# Altium footprint library 107-LQFP.PcbLib: 2 footprints
Each footprint in its own frame and in the unit in brackets; x right, y up, seen from the top. Pads: shape width x height; smd on the part's side, far side on the other; paste and mask are expansions set on the pad; w line width, h text height; cw(c..) or ccw(c..) is an arc to the next point about the centre after c.
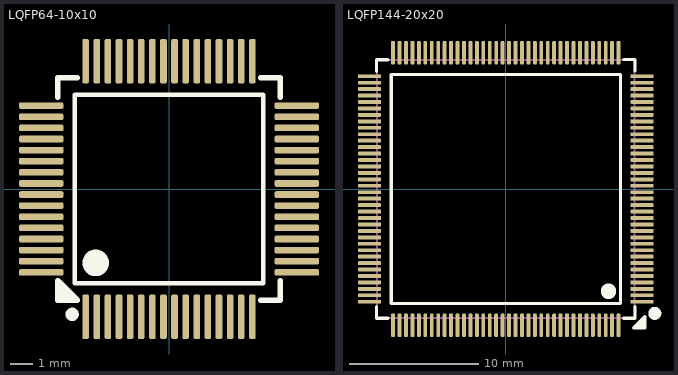
[diagram p0: the footprints below, top view; thin cyan lines are the x and y axes]

## LQFP64-10x10 [mm] "LQFP64-10x10-L=10mm/W=10mm/P=0.5mm/H=1.6mm"
height 1.6
pads (64):
  rrect50% 0.3x2 smd: 1(-3.75,-5.75) 2(-3.25,-5.75) 3(-2.75,-5.75) 4(-2.25,-5.75) 5(-1.75,-5.75) 6(-1.25,-5.75) 7(-0.75,-5.75) 8(-0.25,-5.75) 9(0.25,-5.75) 10(0.75,-5.75) 11(1.25,-5.75) 12(1.75,-5.75) 13(2.25,-5.75) 14(2.75,-5.75) 15(3.25,-5.75) 16(3.75,-5.75) 33(3.75,5.75) 34(3.25,5.75) 35(2.75,5.75) 36(2.25,5.75) 37(1.75,5.75) 38(1.25,5.75) 39(0.75,5.75) 40(0.25,5.75) 41(-0.25,5.75) 42(-0.75,5.75) 43(-1.25,5.75) 44(-1.75,5.75) 45(-2.25,5.75) 46(-2.75,5.75) 47(-3.25,5.75) 48(-3.75,5.75)
  rrect50% 2x0.3 smd: 17(5.75,-3.75) 18(5.75,-3.25) 19(5.75,-2.75) 20(5.75,-2.25) 21(5.75,-1.75) 22(5.75,-1.25) 23(5.75,-0.75) 24(5.75,-0.25) 25(5.75,0.25) 26(5.75,0.75) 27(5.75,1.25) 28(5.75,1.75) 29(5.75,2.25) 30(5.75,2.75) 31(5.75,3.25) 32(5.75,3.75) 49(-5.75,3.75) 50(-5.75,3.25) 51(-5.75,2.75) 52(-5.75,2.25) 53(-5.75,1.75) 54(-5.75,1.25) 55(-5.75,0.75) 56(-5.75,0.25) 57(-5.75,-0.25) 58(-5.75,-0.75) 59(-5.75,-1.25) 60(-5.75,-1.75) 61(-5.75,-2.25) 62(-5.75,-2.75) 63(-5.75,-3.25) 64(-5.75,-3.75)
Top Overlay:
  region: -4.131,-5 -5,-4.131 -5,-5
  lines w0.2: -4.25,-4.25 -4.25,4.25 4.25,4.25 4.25,-4.25 -4.25,-4.25
  lines w0.254: -5,4.131 -5,5 -4.131,5 ; 4.131,-5 5,-5 5,-4.131 ; 4.131,5 5,5 5,4.131 ; -5,-4.131 -5,-4.131 ; -5,-4.131 -4.131,-5 -5,-5 -5,-4.131
  lines w0.3: -4.361,-5.49 ccw(c-4.36,-5.64) -4.36,-5.79 ccw(c-4.36,-5.64) -4.359,-5.49
  lines w0.6: -3.299,-3.025 ccw(c-3.297,-3.325) -3.297,-3.625 ccw(c-3.297,-3.325) -3.294,-3.025
3D body "LQFP64-10x10.step": height 1.45, standoff 0, extent -6,-6 6,6

## LQFP144-20x20 [mm] "20x20mm，0.5mm"
pads (144):
  rrect50% 1.8x0.3 smd: 1(10.573,-8.75) 2(10.573,-8.25) 3(10.573,-7.75) 4(10.573,-7.25) 5(10.573,-6.75) 6(10.573,-6.25) 7(10.573,-5.75) 8(10.573,-5.25) 9(10.573,-4.75) 10(10.573,-4.25) 11(10.573,-3.75) 12(10.573,-3.25) 13(10.573,-2.75) 14(10.573,-2.25) 15(10.573,-1.75) 16(10.573,-1.25) 17(10.573,-0.75) 18(10.573,-0.25) 19(10.573,0.25) 20(10.573,0.75) 21(10.573,1.25) 22(10.573,1.75) 23(10.573,2.25) 24(10.573,2.75) 25(10.573,3.25) 26(10.573,3.75) 27(10.573,4.25) 28(10.573,4.75) 29(10.573,5.25) 30(10.573,5.75) 31(10.573,6.25) 32(10.573,6.75) 33(10.573,7.25) 34(10.573,7.75) 35(10.573,8.25) 36(10.573,8.75) 73(-10.573,8.75) 74(-10.573,8.25) 75(-10.573,7.75) 76(-10.573,7.25) 77(-10.573,6.75) 78(-10.573,6.25) 79(-10.573,5.75) 80(-10.573,5.25) 81(-10.573,4.75) 82(-10.573,4.25) 83(-10.573,3.75) 84(-10.573,3.25) 85(-10.573,2.75) 86(-10.573,2.25) 87(-10.573,1.75) 88(-10.573,1.25) 89(-10.573,0.75) 90(-10.573,0.25) 91(-10.573,-0.25) 92(-10.573,-0.75) 93(-10.573,-1.25) 94(-10.573,-1.75) 95(-10.573,-2.25) 96(-10.573,-2.75) 97(-10.573,-3.25) 98(-10.573,-3.75) 99(-10.573,-4.25) 100(-10.573,-4.75) 101(-10.573,-5.25) 102(-10.573,-5.75) 103(-10.573,-6.25) 104(-10.573,-6.75) 105(-10.573,-7.25) 106(-10.573,-7.75) 107(-10.573,-8.25) 108(-10.573,-8.75)
  rrect50% 0.3x1.8 smd: 37(8.75,10.573) 38(8.25,10.573) 39(7.75,10.573) 40(7.25,10.573) 41(6.75,10.573) 42(6.25,10.573) 43(5.75,10.573) 44(5.25,10.573) 45(4.75,10.573) 46(4.25,10.573) 47(3.75,10.573) 48(3.25,10.573) 49(2.75,10.573) 50(2.25,10.573) 51(1.75,10.573) 52(1.25,10.573) 53(0.75,10.573) 54(0.25,10.573) 55(-0.25,10.573) 56(-0.75,10.573) 57(-1.25,10.573) 58(-1.75,10.573) 59(-2.25,10.573) 60(-2.75,10.573) 61(-3.25,10.573) 62(-3.75,10.573) 63(-4.25,10.573) 64(-4.75,10.573) 65(-5.25,10.573) 66(-5.75,10.573) 67(-6.25,10.573) 68(-6.75,10.573) 69(-7.25,10.573) 70(-7.75,10.573) 71(-8.25,10.573) 72(-8.75,10.573) 109(-8.75,-10.573) 110(-8.25,-10.573) 111(-7.75,-10.573) 112(-7.25,-10.573) 113(-6.75,-10.573) 114(-6.25,-10.573) 115(-5.75,-10.573) 116(-5.25,-10.573) 117(-4.75,-10.573) 118(-4.25,-10.573) 119(-3.75,-10.573) 120(-3.25,-10.573) 121(-2.75,-10.573) 122(-2.25,-10.573) 123(-1.75,-10.573) 124(-1.25,-10.573) 125(-0.75,-10.573) 126(-0.25,-10.573) 127(0.25,-10.573) 128(0.75,-10.573) 129(1.25,-10.573) 130(1.75,-10.573) 131(2.25,-10.573) 132(2.75,-10.573) 133(3.25,-10.573) 134(3.75,-10.573) 135(4.25,-10.573) 136(4.75,-10.573) 137(5.25,-10.573) 138(5.75,-10.573) 139(6.25,-10.573) 140(6.75,-10.573) 141(7.25,-10.573) 142(7.75,-10.573) 143(8.25,-10.573) 144(8.75,-10.573)
Top Overlay:
  circle w0.508: c11.557,-9.652 r0.25
  region: 10.783,-9.914 9.914,-10.783 10.783,-10.783
  lines w0.254: -10.033,-9.144 -10.033,-10.033 -9.144,-10.033 ; -10.033,9.144 -10.033,10.033 -9.144,10.033 ; 9.131,-10.031 10.02,-10.031 10.02,-9.142 ; 9.131,10.053 10.02,10.053 10.02,9.164 ; -8.89,-8.89 8.892,-8.89 8.892,8.89 -8.89,8.89 -8.89,-8.89 ; 9.914,-10.783 10.783,-9.914 10.783,-10.783 9.914,-10.783
  lines w0.6: 7.667,-7.939 ccw(c7.967,-7.937) 8.267,-7.937 ccw(c7.967,-7.937) 7.667,-7.934
Mechanical 13:
  lines w0.15: -10,-10 -10,10 10,10 10,-10 -10,-10
3D body "LQFP144-20x20.step": height 1.5, standoff 0, extent -11,-11 11,11